# EAGLE library part ARDUINO_UNO_PINOUT (library usevolt)
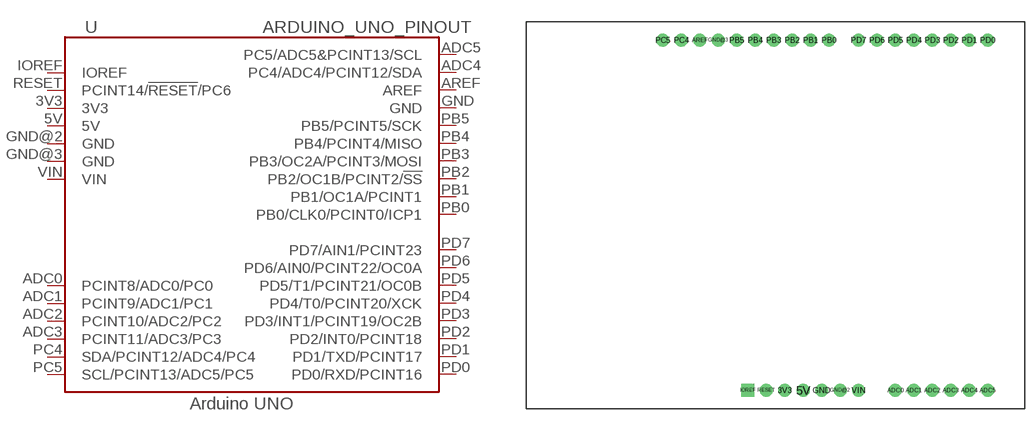
[diagram p24: symbol with the pads of ARDUINO_UNO_PINOUT; footprint ARDUINO_UNO_PINOUT]

Designator prefix U

## ARDUINO_UNO_PINOUT  [ARDUINO_UNO_PINOUT]
3V3  3V3
5V  5V
ADC0  PCINT8/ADC0/PC0
ADC1  PCINT9/ADC1/PC1
ADC2  PCINT10/ADC2/PC2
ADC3  PCINT11/ADC3/PC3
ADC4  PC4/ADC4/PCINT12/SDA
ADC5  PC5/ADC5&PCINT13/SCL
AREF  AREF
GND  GND
GND@2  GND
GND@3  GND
IOREF  IOREF
PB0  PB0/CLK0/PCINT0/ICP1
PB1  PB1/OC1A/PCINT1
PB2  PB2/OC1B/PCINT2/!SS
PB3  PB3/OC2A/PCINT3/MOSI
PB4  PB4/PCINT4/MISO
PB5  PB5/PCINT5/SCK
PC4  SDA/PCINT12/ADC4/PC4
PC5  SCL/PCINT13/ADC5/PC5
PD0  PD0/RXD/PCINT16
PD1  PD1/TXD/PCINT17
PD2  PD2/INT0/PCINT18
PD3  PD3/INT1/PCINT19/OC2B
PD4  PD4/T0/PCINT20/XCK
PD5  PD5/T1/PCINT21/OC0B
PD6  PD6/AIN0/PCINT22/OC0A
PD7  PD7/AIN1/PCINT23
RESET  PCINT14/!RESET!/PC6
VIN  VIN

## Footprint ARDUINO_UNO_PINOUT (pad centres in mm)
drill 1.016 pad 1.778: 3V3 -27.94,0; 5V -25.4,0; ADC0 -12.7,0; ADC1 -10.16,0; ADC2 -7.62,0; ADC3 -5.08,0; ADC4 -2.54,0; ADC5 0,0; AREF -39.624,48.26; GND -22.86,0; GND@2 -20.32,0; GND@3 -37.084,48.26; PB0 -21.844,48.26; PB1 -24.384,48.26; PB2 -26.924,48.26; PB3 -29.464,48.26; PB4 -32.004,48.26; PB5 -34.544,48.26; PC4 -42.164,48.26; PC5 -44.704,48.26; PD0 0,48.26; PD1 -2.54,48.26; PD2 -5.08,48.26; PD3 -7.62,48.26; PD4 -10.16,48.26; PD5 -12.7,48.26; PD6 -15.24,48.26; PD7 -17.78,48.26; RESET -30.48,0; VIN -17.78,0
drill 1.016 pad 1.778 square: IOREF -33.02,0